# Altium footprint library OFC1.PcbLib: 20 footprints (part 2 of 2)
Each footprint in its own frame and in the unit in brackets; x right, y up, seen from the top. Pads: shape width x height; smd on the part's side, far side on the other; paste and mask are expansions set on the pad; w line width, h text height; cw(c..) or ccw(c..) is an arc to the next point about the centre after c.
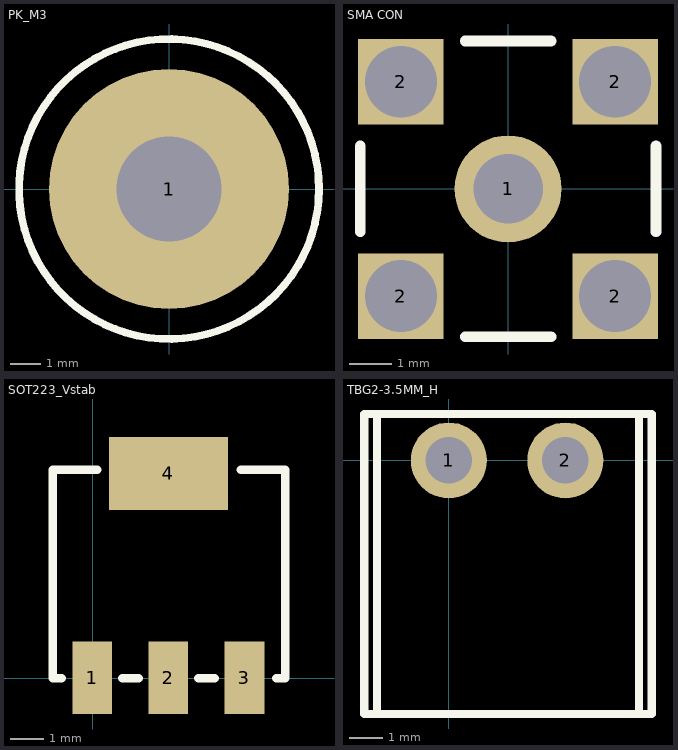
[diagram p1: the footprints below, top view; thin cyan lines are the x and y axes]

## PK_M3 [mm]
pads (1):
  round 8 hole 3.5: 1(0,0)
Top Overlay:
  circle w0.254: c0,0 r5

## SMA CON [mil]
pads (5):
  round 100 hole 65: 1(0,0)
  rect 80x80 hole 67: 2(-100.11,-100.11) 2(-100.11,99.89) 2(99.89,-100.11) 2(99.89,99.89)
Top Overlay:
  lines w10: -138,-40 -138,40 ; -40,-138 40,-138 ; -40,138 40,138 ; 138,-40 138,40

## SOT223_Vstab [mm]
pads (4):
  rect 1.2x2.2 smd: 1(-0.015,0.024) 2(2.286,0.024) 3(4.59,0.024)
  rect 3.6x2.2 smd: 4(2.286,6.21)
Top Overlay:
  lines w0.254: -0.94,0.01 -1.21,0.01 -1.21,6.32 0.13,6.32 ; 0.89,0.01 1.39,0.01 ; 3.19,0.01 3.69,0.01 ; 4.48,6.32 5.82,6.32 5.82,0.01 5.55,0.01

## TBG2-3.5MM_H [mil]
pads (2):
  round 90 hole 55: 1(0,0) 2(137.8,0)
Top Overlay:
  lines w10: -85,-300 -85,55 ; 225,-300 225,55 ; -100,-300 240,-300 240,55 -100,55 -100,-300
3D body "691321300002 (rev1).stp": height 354.83, standoff -145.17, extent -102.56,-228.29 244.29,55.12